# Altium footprint library Discretes.PcbLib: 56 footprints (part 1 of 4)
Each footprint in its own frame and in the unit in brackets; x right, y up, seen from the top. Pads: shape width x height; smd on the part's side, far side on the other; paste and mask are expansions set on the pad; w line width, h text height; cw(c..) or ccw(c..) is an arc to the next point about the centre after c.
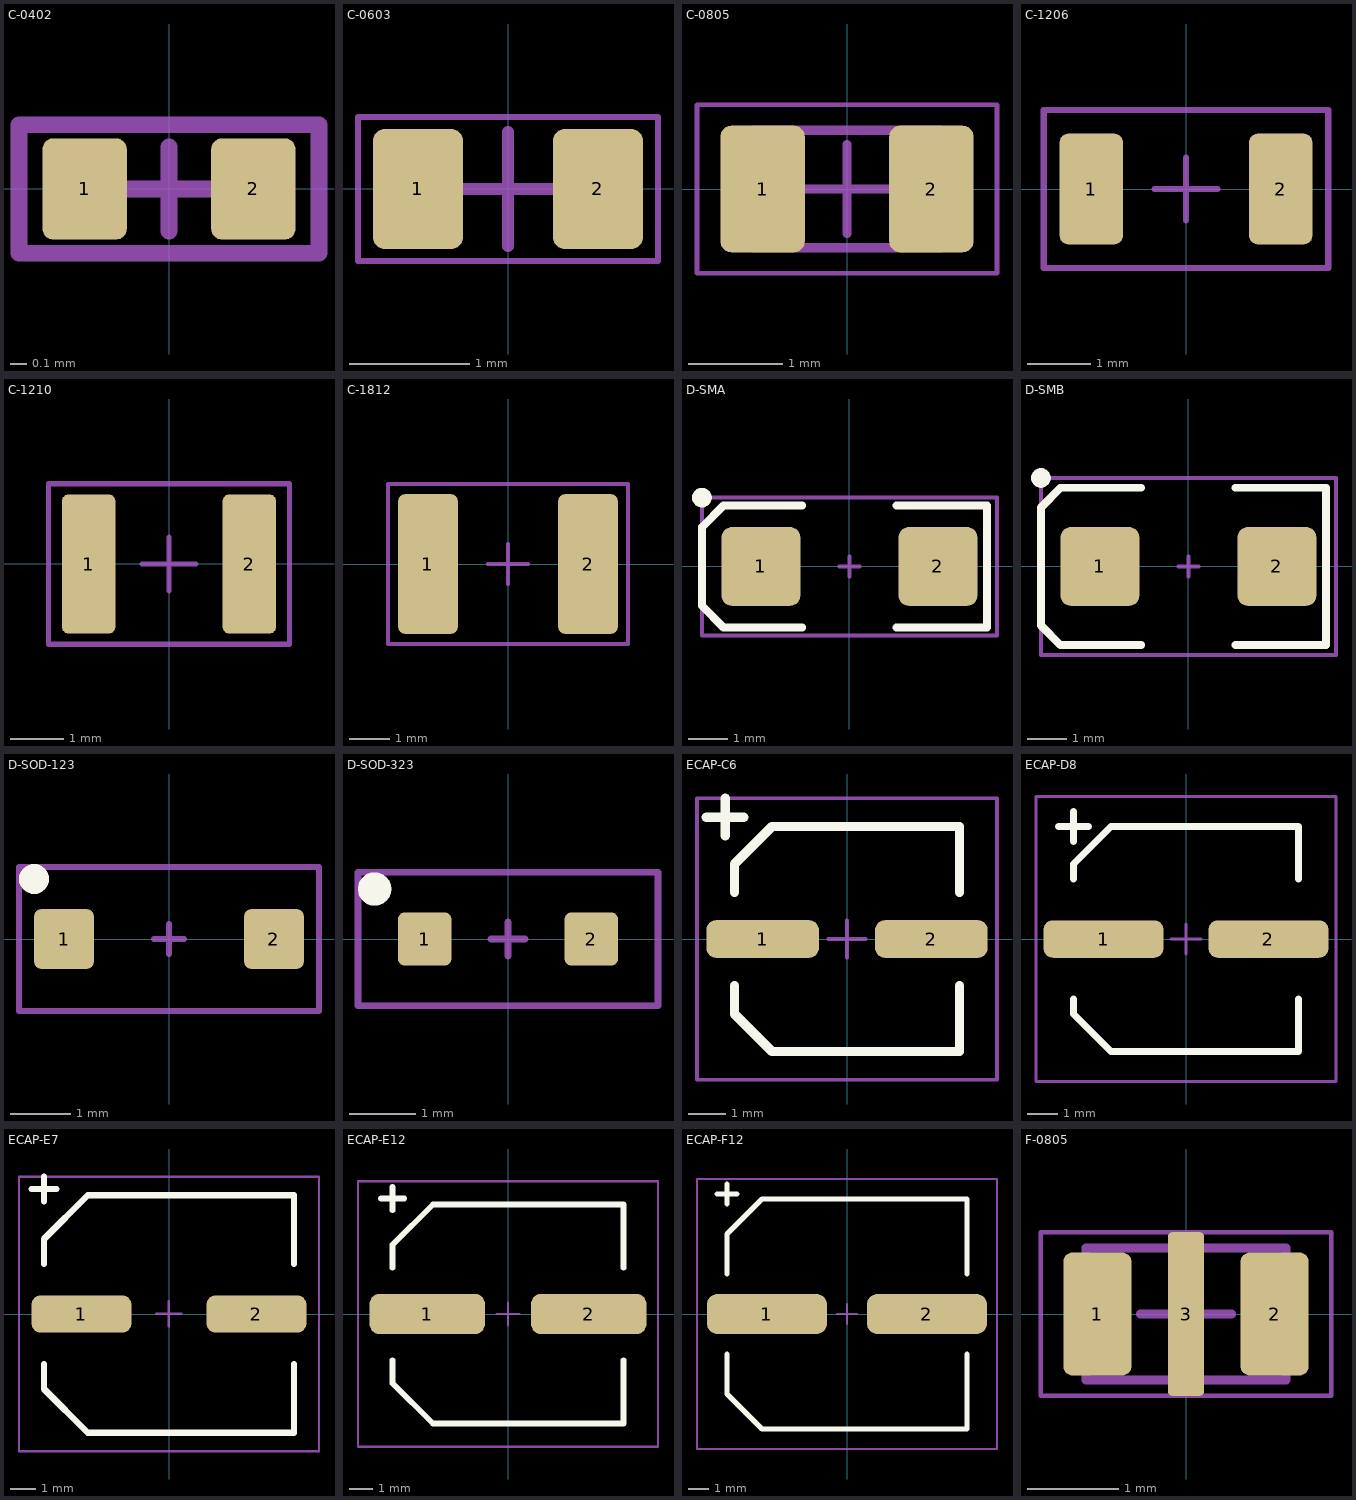
[diagram p0: the footprints below, top view; thin cyan lines are the x and y axes]

## C-0402 [mm] "Chip Capacitor 0402"
height 1
pads (2):
  rrect25% 0.5x0.6 smd: 1(-0.5,0) 2(0.5,0)
Mechanical 15:
  lines w0.1: -0.254,0 0.254,0 ; 0,-0.25 0,0.25 ; -0.889,-0.381 0.889,-0.381 0.889,0.381 -0.889,0.381 -0.889,-0.381
3D body "User Library-Capacitor 0402.STEP": height 0.51, standoff 0.01, extent -0.5,-0.25 0.5,0.25

## C-0603 [mm] "Chip Capacitor 0603"
height 1
pads (2):
  rrect25% 0.75x1 smd: 1(-0.75,0) 2(0.75,0)
Mechanical 15:
  lines w0.05: -1.25,-0.6 1.25,-0.6 1.25,0.6 -1.25,0.6 -1.25,-0.6
  lines w0.1: -0.475,0 0.475,0 ; 0,-0.475 0,0.475
3D body "C_0603_1608Metric.step": height 0.8, standoff 0, extent -0.8,-0.4 0.8,0.4

## C-0805 [mm] "Chip Capacitor 0805"
height 1
pads (2):
  rrect25% 0.9x1.35 smd: 1(-0.9,0) 2(0.9,0)
Mechanical 13:
  lines w0.1: -1,-0.625 -1,0.625 1,0.625 1,-0.625 -1,-0.625
Mechanical 15:
  lines w0.05: -1.6,-0.9 -1.6,0.9 1.6,0.9 1.6,-0.9 -1.6,-0.9
  lines w0.1: -0.475,0 0.475,0 ; 0,-0.475 0,0.475
3D body "C_0805_2012Metric.step": height 1.25, standoff 0, extent -1,-0.625 1,0.625

## C-1206 [mm] "Chip Capacitor 1206"
height 4
pads (2):
  rrect25% 1x1.75 smd: 1(-1.5,0) 2(1.5,0)
Mechanical 15:
  lines w0.1: -0.5,0 0.5,0 ; 0,-0.5 0,0.5 ; -2.25,-1.25 -2.25,1.25 2.25,1.25 2.25,-1.25 -2.25,-1.25
3D body "C_1206_3216Metric.step": height 1.6, standoff 0, extent -1.6,-0.8 1.6,0.8

## C-1210 [mm] "Chip Capacitor 1210"
height 4
pads (2):
  rrect25% 1x2.6 smd: 1(-1.5,0) 2(1.5,0)
Mechanical 15:
  lines w0.1: -0.5,0 0.5,0 ; 0,-0.5 0,0.5 ; -2.25,-1.5 2.25,-1.5 2.25,1.5 -2.25,1.5 -2.25,-1.5
3D body "User Library-cap_1210.STEP": height 2.5, standoff 0, extent -1.6,-1.25 1.6,1.25

## C-1812 [mm] "Chip Capacitor 1812"
height 4
pads (2):
  rrect25% 1.5x3.5 smd: 1(-2,0) 2(2,0)
Mechanical 15:
  lines w0.1: -0.5,0 0.5,0 ; 0,-0.5 0,0.5 ; -3,-2 -3,2 3,2 3,-2 -3,-2
3D body "C_1812_4532Metric.step": height 2.5, standoff 0, extent -2.25,-1.6 2.25,1.6

## D-SMA [mm] "DO-214-AC/SMA"
height 3
pads (2):
  rrect25% 2x2 smd: 1(-2.25,0) 2(2.25,0)
Top Overlay:
  circle w0.25: c-3.75,1.75 r0.125
  lines w0.2: -1.2,-1.55 -3.2,-1.55 -3.75,-1 -3.75,1 -3.2,1.55 -1.2,1.55 ; 1.2,-1.55 3.5,-1.55 3.5,1.55 1.2,1.55
Mechanical 15:
  lines w0.1: -0.254,0 0.254,0 ; 0,-0.254 0,0.254 ; -3.75,-1.75 -3.75,1.75 3.75,1.75 3.75,-1.75 -3.75,-1.75
3D body "User Library-DO-214AC(SMA).STEP": height 2.3, standoff 0.01, extent -2.743,-1.397 2.743,1.397

## D-SMB [mm] "DO-214-AA/SMB"
height 3
pads (2):
  rrect25% 2x2 smd: 1(-2.25,0) 2(2.25,0)
Top Overlay:
  circle w0.25: c-3.75,2.25 r0.125
  lines w0.2: -1.2,-2 -3.25,-2 -3.75,-1.5 -3.75,1.5 -3.25,2 -1.2,2 ; 1.2,-2 3.5,-2 3.5,2 1.2,2
Mechanical 15:
  lines w0.1: -0.254,0 0.254,0 ; 0,-0.254 0,0.254 ; -3.75,-2.25 -3.75,2.25 3.75,2.25 3.75,-2.25 -3.75,-2.25
3D body "SMB Package.step": height 2.24, standoff -0.01, extent -2.7,-1.778 2.7,1.778

## D-SOD-123 [mm] "SOD-123"
height 3
pads (2):
  rrect25% 1x1 smd: 1(-1.75,0) 2(1.75,0)
Top Overlay:
  circle w0.25: c-2.25,1 r0.125
Mechanical 15:
  lines w0.1: -0.254,0 0.254,0 ; 0,-0.254 0,0.254 ; -2.5,-1.2 2.5,-1.2 2.5,1.2 -2.5,1.2 -2.5,-1.2
3D body "SOD-123_J.stp": height 1.25, standoff -0.01, extent -1.854,-0.775 1.854,0.775

## D-SOD-323 [mm] "SOD-323"
height 1.2
pads (2):
  rrect25% 0.8x0.8 smd: 1(-1.25,0) 2(1.25,0)
Top Overlay:
  circle w0.25: c-2,0.75 r0.125
Mechanical 15:
  lines w0.1: -0.254,0 0.254,0 ; 0,-0.254 0,0.254 ; -2.25,-1 -2.25,1 2.25,1 2.25,-1 -2.25,-1
3D body "SOD-323_J.stp": height 0.94, standoff -0.01, extent -1.342,-0.65 1.342,0.65

## ECAP-C6 [mm]
height 5.9
pads (2):
  rrect50% 3x1 smd: 1(-2.25,0) 2(2.25,0)
Top Overlay:
  lines w0.25: -3.75,3.25 -2.75,3.25 ; -3.25,2.75 -3.25,3.75 ; -3,-1.25 -3,-2 -2,-3 3,-3 3,-1.25 ; -3,1.25 -3,2 -2,3 3,3 3,1.25
Mechanical 15:
  lines w0.1: -0.5,0 0.5,0 ; 0,-0.5 0,0.5 ; -4,-3.75 4,-3.75 4,3.75 -4,3.75 -4,-3.75
3D body "CP_Elec_5x5.8.step": height 5.8, standoff 0, extent -3.25,-2.65 3.25,2.65

## ECAP-D8 [mm]
height 8
pads (2):
  rrect50% 4x1.25 smd: 1(-2.75,0) 2(2.75,0)
Top Overlay:
  lines w0.25: -4.25,3.75 -3.25,3.75 ; -3.75,-2 -3.75,-2.5 -2.5,-3.75 3.75,-3.75 3.75,-2 ; -3.75,2 -3.75,2.5 -2.5,3.75 3.75,3.75 3.75,2 ; -3.75,3.25 -3.75,4.25
Mechanical 15:
  lines w0.1: -0.5,0 0.5,0 ; 0,-0.5 0,0.5 ; -5,-4.75 -5,4.75 5,4.75 5,-4.75 -5,-4.75
3D body "C_Elec_6.3x7.7.step": height 7.7, standoff 0, extent -3.9,-3.3 3.899,3.3

## ECAP-E7 [mm]
height 6.9
pads (2):
  rrect50% 4x1.5 smd: 1(-3.5,0) 2(3.5,0)
Top Overlay:
  lines w0.25: -5.5,5 -4.5,5 ; -5,-2 -5,-3 -3.25,-4.75 5,-4.75 5,-2 ; -5,2 -5,3 -3.25,4.75 5,4.75 5,2 ; -5,4.5 -5,5.5
Mechanical 15:
  lines w0.1: -0.5,0 0.5,0 ; 0,-0.5 0,0.5 ; -6,-5.5 -6,5.5 6,5.5 6,-5.5 -6,-5.5
3D body "_C3_A2_E2_95_998_20SIZE_20CODE_20E7.STEP": height 7.1, standoff 0.2, extent -4.5,-4.15 4.5,4.15

## ECAP-E12 [mm]
height 11.9
pads (2):
  rrect50% 5x1.75 smd: 1(-3.5,0) 2(3.5,0)
Top Overlay:
  lines w0.25: -5.5,5 -4.5,5 ; -5,-2 -5,-3 -3.25,-4.75 5,-4.75 5,-2 ; -5,2 -5,3 -3.25,4.75 5,4.75 5,2 ; -5,4.5 -5,5.5
Mechanical 15:
  lines w0.1: -0.5,0 0.5,0 ; 0,-0.5 0,0.5 ; -6.5,-5.75 6.5,-5.75 6.5,5.75 -6.5,5.75 -6.5,-5.75
3D body "8 SIZE CODE E12.STEP": height 11.95, standoff 0.05, extent -4.5,-4.15 4.5,4.15

## ECAP-F12 [mm]
height 12.6
pads (2):
  rrect50% 6x2 smd: 1(-4,0) 2(4,0)
Top Overlay:
  lines w0.25: -6.5,6 -5.5,6 ; -6,-2 -6,-4 -4.25,-5.75 6,-5.75 6,-2 ; -6,2 -6,4 -4.25,5.75 6,5.75 6,2 ; -6,5.5 -6,6.5
Mechanical 15:
  lines w0.1: -0.5,0 0.5,0 ; 0,-0.5 0,0.5 ; -7.5,-6.75 -7.5,6.75 7.5,6.75 7.5,-6.75 -7.5,-6.75
3D body "_C3_A2_E2_95_9910_20SIZE_20CODE_20F12.STEP": height 12.6, standoff 0, extent -5.5,-5.15 5.499,5.15

## F-0805 [mm] "Chip EM Filter, 3-Leads, Body 2,00x1,25mm, IPC Medium Density"
height 0.85
pads (3):
  rrect25% 0.75x1.35 smd: 1(-0.975,0) 2(0.975,0)
  rrect25% 0.4x1.8 smd: 3(0,0)
Mechanical 13:
  lines w0.1: -1.1,-0.725 -1.1,0.725 1.1,0.725 1.1,-0.725 -1.1,-0.725
Mechanical 15:
  lines w0.05: -1.6,-0.9 -1.6,0.9 1.6,0.9 1.6,-0.9 -1.6,-0.9
  lines w0.1: -0.5,0 0.5,0 ; 0,-0.5 0,0.5
3D body "INDC1304X09N.step": height 0.86, standoff 0, extent -0.2,-0.63 0.2,0.63
3D body "INDC2012X08N.step": height 0.85, standoff 0, extent -1,-0.625 1,0.625